# EAGLE library part FAN73711 (library wolfi)
High Side Gate Drive IC https://www.fairchildsemi.com/products/power-management/mosfet-igbt-gate-drivers/high-side-drivers/FAN73711.html
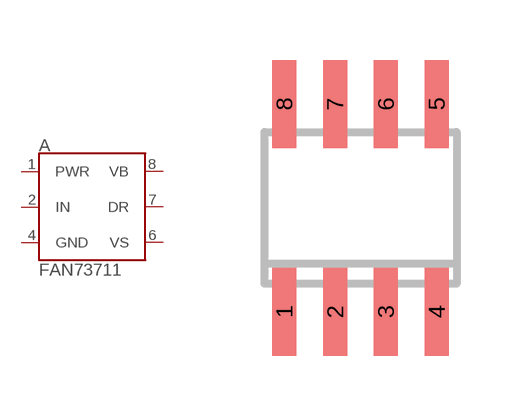
[diagram p27: symbol with the pads of SO08; footprint SO08]

Designator prefix A

## FAN73711  [SO08]
1  PWR  pwr
2  IN  in
4  GND  pwr
6  VS
7  DR  out
8  VB  pas

## Footprint SO08 (pad centres in mm)
Small Outline Package 8 NS Package M08A
smd 0.6 x 2.2: 1 -1.905,-2.6; 2 -0.635,-2.6; 3 0.635,-2.6; 4 1.905,-2.6; 5 1.905,2.6; 6 0.635,2.6; 7 -0.635,2.6; 8 -1.905,2.6